# EAGLE library part RT7258 (library TotU)
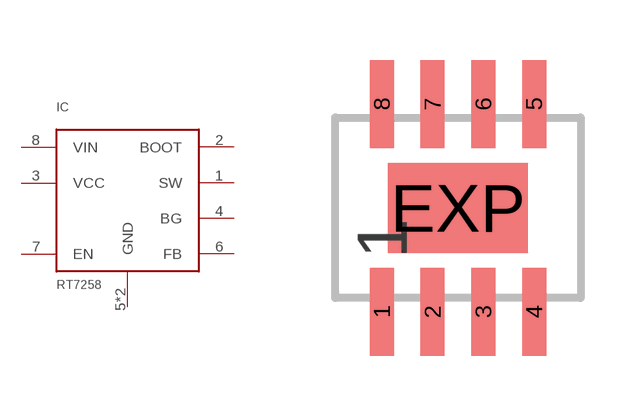
[diagram p1: symbol with the pads of SOP08-PAD; footprint SOP08-PAD]

Designator prefix IC

## RT7258  [SOP08-PAD]
1  SW
2  BOOT
3  VCC
4  BG
5  GND
6  FB
7  EN
8  VIN
EXP  GND

## Footprint SOP08-PAD (pad centres in mm)
smd 0.6 x 2.2: 1 -1.905,-2.6; 2 -0.635,-2.6; 3 0.635,-2.6; 4 1.905,-2.6; 5 1.905,2.6; 6 0.635,2.6; 7 -0.635,2.6; 8 -1.905,2.6
smd 3.5 x 2.25: EXP 0,0